# EAGLE library part TDA3602 (library stabilizatory)
MULTIPLE OUTPUT VOLTAGE REGULATOR
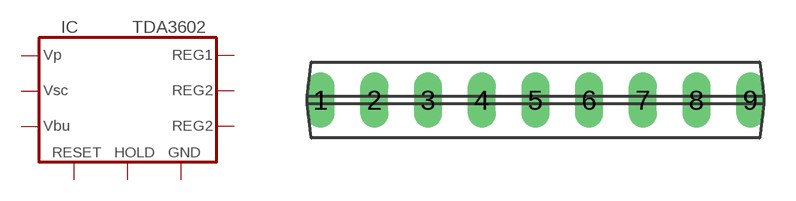
[diagram p8: symbol with the pads of SOT110-1; footprint SOT110-1]

Designator prefix IC

## TDA3602  [SOT110-1]
1  VP  in
2  REG1  pas
3  RESET  in
4  VSC  in
5  HOLD  in
6  GND  in
7  REG3  pas
8  VBU  in
9  REG2  pas

## Footprint SOT110-1 (pad centres in mm)
drill 0.813 long: 1 -10.16,0; 2 -7.62,0; 3 -5.08,0; 4 -2.54,0; 5 0,0; 6 2.54,0; 7 5.08,0; 8 7.62,0; 9 10.16,0